# Altium footprint library PCB - CONNECTOR - PHOENIX - PHOENIX 1727036.PcbLib: 1 footprints
Each footprint in its own frame and in the unit in brackets; x right, y up, seen from the top. Pads: shape width x height; smd on the part's side, far side on the other; paste and mask are expansions set on the pad; w line width, h text height; cw(c..) or ccw(c..) is an arc to the next point about the centre after c.
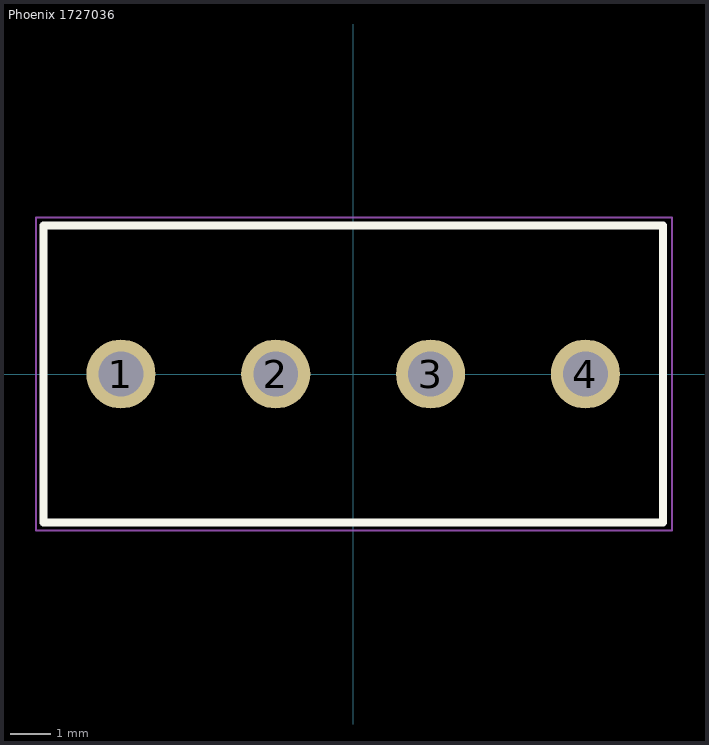
[diagram p0: the footprint, top view; thin cyan lines are the x and y axes]

## Phoenix 1727036 [mm] "Wire to Board Terminal Block Horizontal with Board Through Hole, 4 Position,3.81 mm Pitch, 15.24x7.3 mm Body"
height 8.5
pads (4):
  round 1.7 hole 1.1: 1(-5.715,0) 2(-1.905,0) 3(1.905,0) 4(5.715,0)
Top Overlay:
  lines w0.2: -7.62,-3.65 7.62,-3.65 7.62,3.65 -7.62,3.65 -7.62,-3.65
Mechanical 1:
  lines w0.1: -7.62,-3.65 7.62,-3.65 7.62,3.65 -7.62,3.65 -7.62,-3.65
Mechanical 15 (Mech15):
  lines w0.05: -7.81,-3.85 7.85,-3.85 7.85,3.85 -7.81,3.85 -7.81,-3.85
3D body "Phoenix Contact - 1727036 v2.step": height 8.5, standoff -3.5, extent -7.62,-3.65 7.62,3.65